# Altium integrated library TI_Logic_Flip-Flop,Latch,Register.IntLib: 2598 symbols (part 63 of 122)
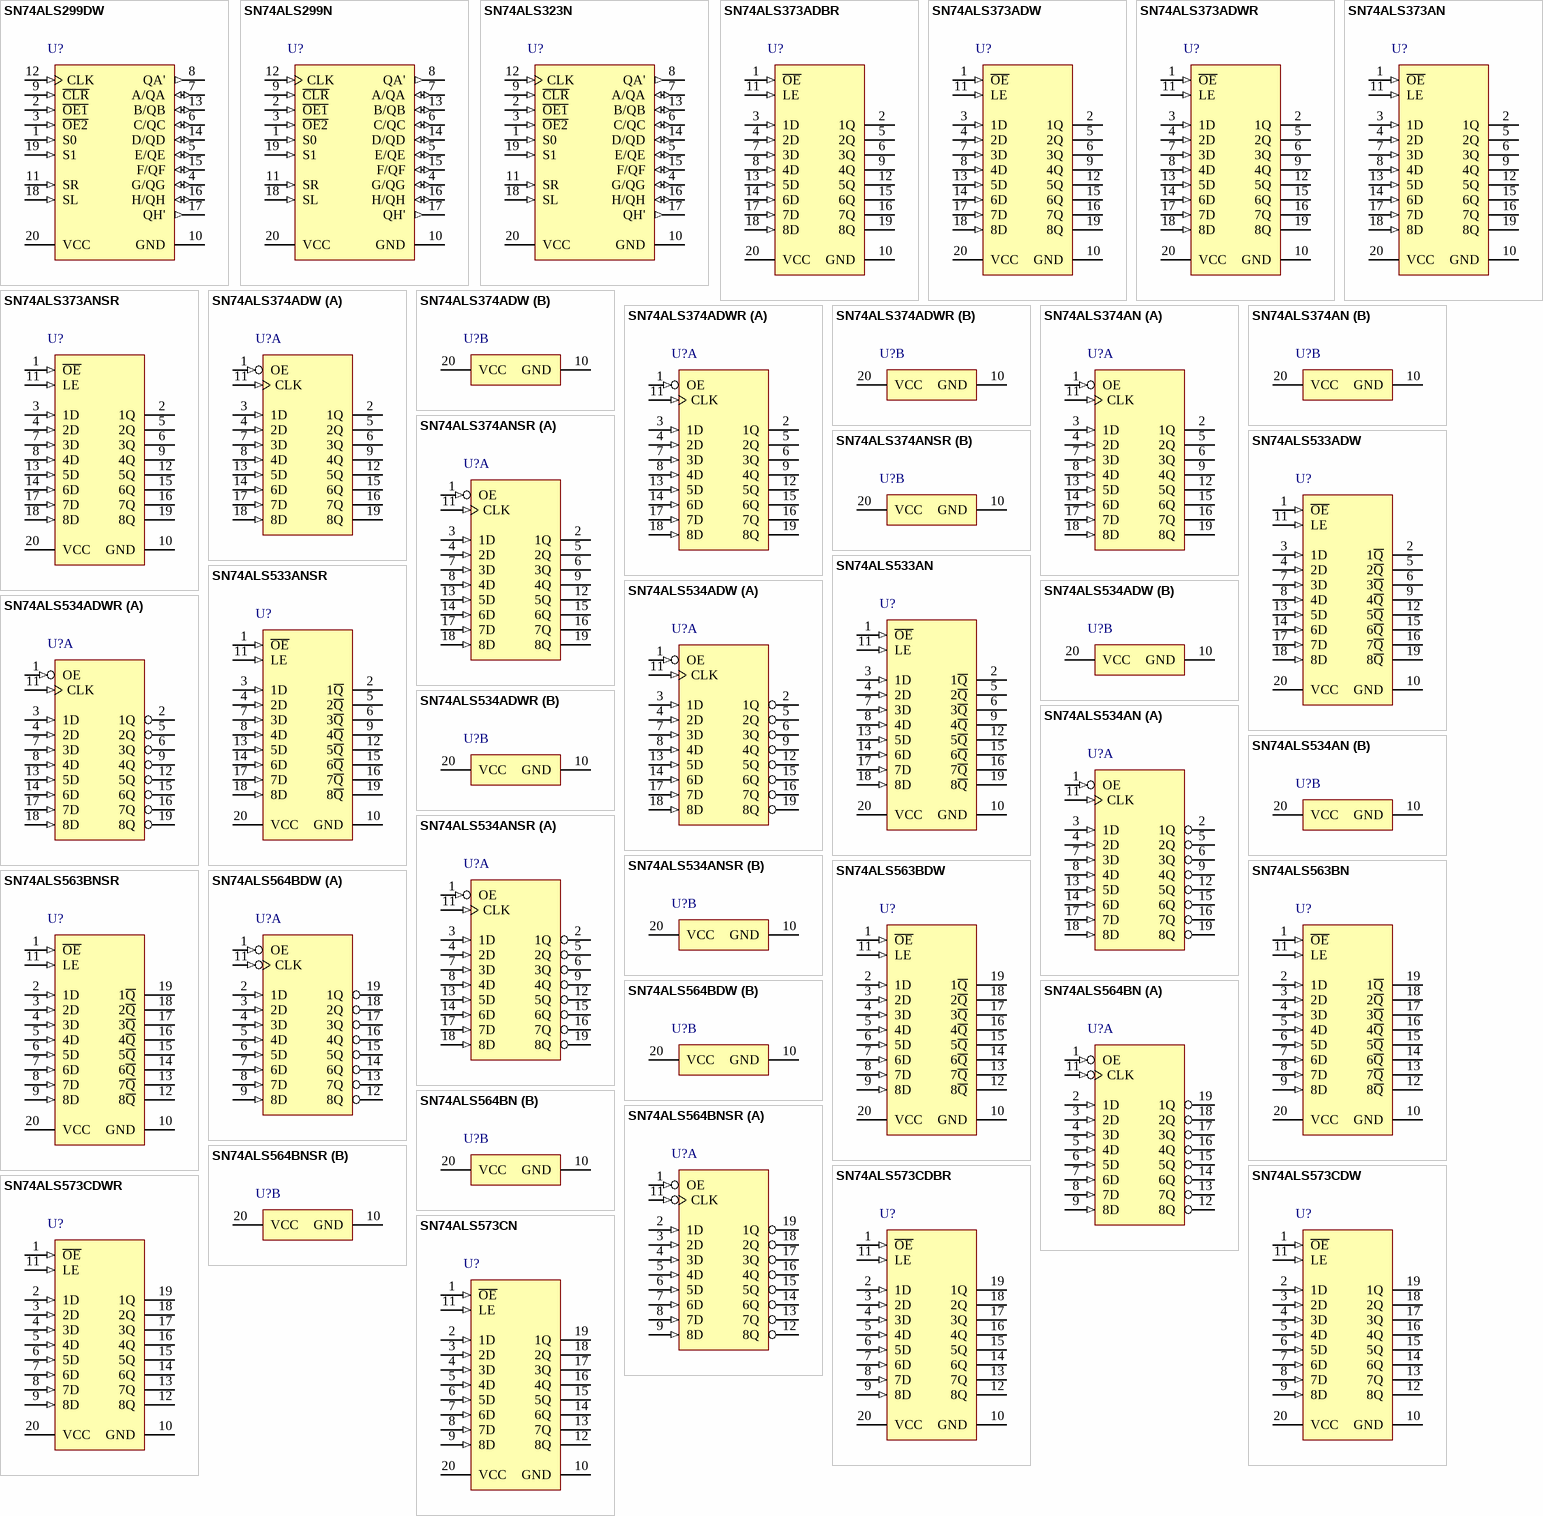
[diagram p201: symbols SN74ALS299DW to SN74ALS573CN]

## SN74ALS373ADBR
designator U?
Octal D-Type Transparent Latches with 3-state Outputs, DB0020A, LARGE T&R; Generic Part Number: SN74ALS373A; Manufacturer: Texas Instruments; PartNumber: SN74ALS373ADBR; VCC(Min)(V): 4.5; VCC(Max)(V): 5.5; Output Type: TTL; ICC @ Nom Voltage(Max)(mA): 27; Bits(#): 8; F @ Nom Voltage(Max)(Mhz): 75; Rating: Catalog; Technology Family: ALS; Voltage(Nom)(V): 5; Schmitt Trigger: No; Output Drive (IOL/IOH)(Max)(mA): 24/--2.6; Output Logic: Non-inverted; 3-State Output: Yes; tpd @ Nom Voltage(Max)(ns): 16; DatasheetVersion: SDAS083C; PackageReference: DB0020A; Supplier 1: Digi-Key; Supplier Part Number 1: 296-5056-2-ND; Supplier 2: Digi-Key; Supplier Part Number 2: 296-5056-1-ND; Supplier 3: Digi-Key; Supplier Part Number 3: 296-5056-6-ND; Supplier 4: Mouser; Supplier Part Number 4: 595-SN74ALS373ADBR; Input Type: TTL; Operating Temperature Range(C): 0 to 70; Code_JEDEC: MO-150; ComponentLink1Description: Manufacturer URL; ComponentLink1URL: http://www.ti.com/; ComponentLink2Description: Datasheet; ComponentLink2URL: http://www.ti.com/lit/ds/symlink/sn74als373a.pdf; ComponentLink3Description: Package Specification; ComponentLink3URL: http://www.ti.com/lit/ml/mpds508/mpds508.pdf
footprint DB0020A_N (SOP, 20-Leads, Body 5.6x7.5mm, Pitch 0.65mm, IPC Medium Density)
footprint DB0020A_M (SOP, 20-Leads, Body 5.6x7.5mm, Pitch 0.65mm, IPC Low Density)
footprint DB0020A_L (SOP, 20-Leads, Body 5.6x7.5mm, Pitch 0.65mm, IPC High Density)
pins: 1 ~{OE} (in) "Output Enable", 2 1Q (hiz) "1Q Output", 3 1D (in) "1D Input", 4 2D (in) "2D Input", 5 2Q (hiz) "2Q Output", 6 3Q (hiz) "3Q Output", 7 3D (in) "3D Input", 8 4D (in) "4D Input", 9 4Q (hiz) "4Q Output", 10 GND (power) "Ground Pin", 11 LE (in) "Latch Enable", 12 5Q (hiz) "5Q Output", 13 5D (in) "5D Input", 14 6D (in) "6D Input", 15 6Q (hiz) "6Q Output", 16 7Q (hiz) "7Q Output", 17 7D (in) "7D Input", 18 8D (in) "8D Input", 19 8Q (hiz) "8Q Output", 20 VCC (power) "Power Pin"

## SN74ALS373ADW
designator U?
Octal D-Type Transparent Latches with 3-state Outputs, DW0020A, TUBE; Generic Part Number: SN74ALS373A; Manufacturer: Texas Instruments; PartNumber: SN74ALS373ADW; VCC(Min)(V): 4.5; VCC(Max)(V): 5.5; Output Type: TTL; ICC @ Nom Voltage(Max)(mA): 27; Bits(#): 8; F @ Nom Voltage(Max)(Mhz): 75; Rating: Catalog; Technology Family: ALS; Voltage(Nom)(V): 5; Schmitt Trigger: No; Output Drive (IOL/IOH)(Max)(mA): 24/--2.6; Output Logic: Non-inverted; 3-State Output: Yes; tpd @ Nom Voltage(Max)(ns): 16; DatasheetVersion: SDAS083C; PackageReference: DW0020A; Supplier 1: Digi-Key; Supplier Part Number 1: 296-5057-5-ND; Supplier 2: Mouser; Supplier Part Number 2: 595-SN74ALS373ADW; Input Type: TTL; Operating Temperature Range(C): 0 to 70; Code_JEDEC: MS-013; ComponentLink1Description: Manufacturer URL; ComponentLink1URL: http://www.ti.com/; ComponentLink2Description: Datasheet; ComponentLink2URL: http://www.ti.com/lit/ds/symlink/sn74als373a.pdf; ComponentLink3Description: Package Specification; ComponentLink3URL: http://www.ti.com/lit/ml/mpds173a/mpds173a.pdf
footprint DW0020A_N (SOIC, 20-Leads, Body 13x7.6mm, Pitch 1.27mm, IPC Medium Density)
footprint DW0020A_M (SOIC, 20-Leads, Body 13x7.6mm, Pitch 1.27mm, IPC Low Density)
footprint DW0020A_L (SOIC, 20-Leads, Body 13x7.6mm, Pitch 1.27mm, IPC High Density)
pins: 1 ~{OE} (in) "Output Enable", 2 1Q (hiz) "1Q Output", 3 1D (in) "1D Input", 4 2D (in) "2D Input", 5 2Q (hiz) "2Q Output", 6 3Q (hiz) "3Q Output", 7 3D (in) "3D Input", 8 4D (in) "4D Input", 9 4Q (hiz) "4Q Output", 10 GND (power) "Ground Pin", 11 LE (in) "Latch Enable", 12 5Q (hiz) "5Q Output", 13 5D (in) "5D Input", 14 6D (in) "6D Input", 15 6Q (hiz) "6Q Output", 16 7Q (hiz) "7Q Output", 17 7D (in) "7D Input", 18 8D (in) "8D Input", 19 8Q (hiz) "8Q Output", 20 VCC (power) "Power Pin"

## SN74ALS373ADWR
designator U?
Octal D-Type Transparent Latches with 3-state Outputs, DW0020A, LARGE T&R; Generic Part Number: SN74ALS373A; Manufacturer: Texas Instruments; PartNumber: SN74ALS373ADWR; VCC(Min)(V): 4.5; VCC(Max)(V): 5.5; Output Type: TTL; ICC @ Nom Voltage(Max)(mA): 27; Bits(#): 8; F @ Nom Voltage(Max)(Mhz): 75; Rating: Catalog; Technology Family: ALS; Voltage(Nom)(V): 5; Schmitt Trigger: No; Output Drive (IOL/IOH)(Max)(mA): 24/--2.6; Output Logic: Non-inverted; 3-State Output: Yes; tpd @ Nom Voltage(Max)(ns): 16; DatasheetVersion: SDAS083C; PackageReference: DW0020A; Supplier 1: Digi-Key; Supplier Part Number 1: 296-14735-2-ND; Supplier 2: Digi-Key; Supplier Part Number 2: 296-14735-1-ND; Supplier 3: Digi-Key; Supplier Part Number 3: 296-14735-6-ND; Supplier 4: Mouser; Supplier Part Number 4: 595-SN74ALS373ADWR; Input Type: TTL; Operating Temperature Range(C): 0 to 70; Code_JEDEC: MS-013; ComponentLink1Description: Manufacturer URL; ComponentLink1URL: http://www.ti.com/; ComponentLink2Description: Datasheet; ComponentLink2URL: http://www.ti.com/lit/ds/symlink/sn74als373a.pdf; ComponentLink3Description: Package Specification; ComponentLink3URL: http://www.ti.com/lit/ml/mpds173a/mpds173a.pdf
footprint DW0020A_N (SOIC, 20-Leads, Body 13x7.6mm, Pitch 1.27mm, IPC Medium Density)
footprint DW0020A_M (SOIC, 20-Leads, Body 13x7.6mm, Pitch 1.27mm, IPC Low Density)
footprint DW0020A_L (SOIC, 20-Leads, Body 13x7.6mm, Pitch 1.27mm, IPC High Density)
pins: 1 ~{OE} (in) "Output Enable", 2 1Q (hiz) "1Q Output", 3 1D (in) "1D Input", 4 2D (in) "2D Input", 5 2Q (hiz) "2Q Output", 6 3Q (hiz) "3Q Output", 7 3D (in) "3D Input", 8 4D (in) "4D Input", 9 4Q (hiz) "4Q Output", 10 GND (power) "Ground Pin", 11 LE (in) "Latch Enable", 12 5Q (hiz) "5Q Output", 13 5D (in) "5D Input", 14 6D (in) "6D Input", 15 6Q (hiz) "6Q Output", 16 7Q (hiz) "7Q Output", 17 7D (in) "7D Input", 18 8D (in) "8D Input", 19 8Q (hiz) "8Q Output", 20 VCC (power) "Power Pin"

## SN74ALS373AN
designator U?
Octal D-Type Transparent Latches with 3-state Outputs, N0020A, TUBE; Generic Part Number: SN74ALS373A; Manufacturer: Texas Instruments; PartNumber: SN74ALS373AN; VCC(Min)(V): 4.5; VCC(Max)(V): 5.5; Output Type: TTL; ICC @ Nom Voltage(Max)(mA): 27; Bits(#): 8; F @ Nom Voltage(Max)(Mhz): 75; Rating: Catalog; Technology Family: ALS; Voltage(Nom)(V): 5; Schmitt Trigger: No; Output Drive (IOL/IOH)(Max)(mA): 24/--2.6; Output Logic: Non-inverted; 3-State Output: Yes; tpd @ Nom Voltage(Max)(ns): 16; DatasheetVersion: SDAS083C; PackageReference: N0020A; Supplier 1: Digi-Key; Supplier Part Number 1: 296-1496-5-ND; Supplier 2: Farnell; Supplier Part Number 2: 1740074; Supplier 3: Newark; Supplier Part Number 3: 08F6043; Supplier 4: Mouser; Supplier Part Number 4: 595-SN74ALS373AN; Input Type: TTL; Operating Temperature Range(C): 0 to 70; Code_JEDEC: MS-001; ComponentLink1Description: Manufacturer URL; ComponentLink1URL: http://www.ti.com/; ComponentLink2Description: Datasheet; ComponentLink2URL: http://www.ti.com/lit/ds/symlink/sn74als373a.pdf; ComponentLink3Description: Package Specification; ComponentLink3URL: http://www.ti.com/lit/ml/mpdi002c/mpdi002c.pdf
footprint N0020A (DIP, 20-Leads, Body 26.9x6.6mm, Pitch 2.54mm)
pins: 1 ~{OE} (in) "Output Enable", 2 1Q (hiz) "1Q Output", 3 1D (in) "1D Input", 4 2D (in) "2D Input", 5 2Q (hiz) "2Q Output", 6 3Q (hiz) "3Q Output", 7 3D (in) "3D Input", 8 4D (in) "4D Input", 9 4Q (hiz) "4Q Output", 10 GND (power) "Ground Pin", 11 LE (in) "Latch Enable", 12 5Q (hiz) "5Q Output", 13 5D (in) "5D Input", 14 6D (in) "6D Input", 15 6Q (hiz) "6Q Output", 16 7Q (hiz) "7Q Output", 17 7D (in) "7D Input", 18 8D (in) "8D Input", 19 8Q (hiz) "8Q Output", 20 VCC (power) "Power Pin"

## SN74ALS373ANSR
designator U?
Octal D-Type Transparent Latches with 3-state Outputs, NS0020A, LARGE T&R; Generic Part Number: SN74ALS373A; Manufacturer: Texas Instruments; PartNumber: SN74ALS373ANSR; VCC(Min)(V): 4.5; VCC(Max)(V): 5.5; Output Type: TTL; ICC @ Nom Voltage(Max)(mA): 27; Bits(#): 8; F @ Nom Voltage(Max)(Mhz): 75; Rating: Catalog; Technology Family: ALS; Voltage(Nom)(V): 5; Schmitt Trigger: No; Output Drive (IOL/IOH)(Max)(mA): 24/--2.6; Output Logic: Non-inverted; 3-State Output: Yes; tpd @ Nom Voltage(Max)(ns): 16; DatasheetVersion: SDAS083C; PackageReference: NS0020A; Supplier 1: Digi-Key; Supplier Part Number 1: SN74ALS373ANSR-ND; Supplier 2: Mouser; Supplier Part Number 2: 595-SN74ALS373ANSR; Input Type: TTL; Operating Temperature Range(C): 0 to 70; ComponentLink1Description: Manufacturer URL; ComponentLink1URL: http://www.ti.com/; ComponentLink2Description: Datasheet; ComponentLink2URL: http://www.ti.com/lit/ds/symlink/sn74als373a.pdf; ComponentLink3Description: Package Specification; ComponentLink3URL: http://www.ti.com/lit/ml/msop002a/msop002a.pdf
footprint NS0020A_N (SOIC,20-Leads,Body 12.9x5.6mm,Pitch 1.27mm,IPC Medium Density)
footprint NS0020A_M (SOIC,20-Leads,Body 12.9x5.6mm,Pitch 1.27mm,IPC Low Density)
footprint NS0020A_L (SOIC,20-Leads,Body 12.9x5.6mm,Pitch 1.27mm,IPC High Density)
pins: 1 ~{OE} (in) "Output Enable", 2 1Q (hiz) "1Q Output", 3 1D (in) "1D Input", 4 2D (in) "2D Input", 5 2Q (hiz) "2Q Output", 6 3Q (hiz) "3Q Output", 7 3D (in) "3D Input", 8 4D (in) "4D Input", 9 4Q (hiz) "4Q Output", 10 GND (power) "Ground Pin", 11 LE (in) "Latch Enable", 12 5Q (hiz) "5Q Output", 13 5D (in) "5D Input", 14 6D (in) "6D Input", 15 6Q (hiz) "6Q Output", 16 7Q (hiz) "7Q Output", 17 7D (in) "7D Input", 18 8D (in) "8D Input", 19 8Q (hiz) "8Q Output", 20 VCC (power) "Power Pin"

## SN74ALS374ADW
designator U?
Octal D-Type Edge Triggered Flip-Flops with 3-State Outputs, DW0020A, TUBE; Generic Part Number: SN74ALS374A; Manufacturer: Texas Instruments; PartNumber: SN74ALS374ADW; VCC(Min)(V): 4.5; VCC(Max)(V): 5.5; Output Type: TTL; ICC @ Nom Voltage(Max)(mA): 31; Bits(#): 8; F @ Nom Voltage(Max)(Mhz): 75; Rating: Catalog; Technology Family: ALS; Voltage(Nom)(V): 5; Schmitt Trigger: No; Output Drive (IOL/IOH)(Max)(mA): 24/-2.6; Output Logic: Non-inverted; 3-State Output: Yes; tpd @ Nom Voltage(Max)(ns): 16; DatasheetVersion: SDAS167C; PackageReference: DW0020A; Supplier 1: Digi-Key; Supplier Part Number 1: 296-1128-5-ND; Supplier 2: Farnell; Supplier Part Number 2: 2499856; Supplier 3: Newark; Supplier Part Number 3: 68Y8015; Supplier 4: Mouser; Supplier Part Number 4: 595-SN74ALS374ADW; Input Type: TTL; Operating Temperature Range(C): 0 to 70; Code_JEDEC: MS-013; ComponentLink1Description: Manufacturer URL; ComponentLink1URL: http://www.ti.com/; ComponentLink2Description: Datasheet; ComponentLink2URL: http://www.ti.com/lit/ds/symlink/sn74als374a.pdf; ComponentLink3Description: Package Specification; ComponentLink3URL: http://www.ti.com/lit/ml/mpds173a/mpds173a.pdf
footprint DW0020A_N (SOIC, 20-Leads, Body 13x7.6mm, Pitch 1.27mm, IPC Medium Density)
footprint DW0020A_M (SOIC, 20-Leads, Body 13x7.6mm, Pitch 1.27mm, IPC Low Density)
footprint DW0020A_L (SOIC, 20-Leads, Body 13x7.6mm, Pitch 1.27mm, IPC High Density)
part A pins: 1 OE (in), 2 1Q (hiz), 3 1D (in), 4 2D (in), 5 2Q (hiz), 6 3Q (hiz), 7 3D (in), 8 4D (in), 9 4Q (hiz), 11 CLK (in), 12 5Q (hiz), 13 5D (in), 14 6D (in), 15 6Q (hiz), 16 7Q (hiz), 17 7D (in), 18 8D (in), 19 8Q (hiz)
part B pins: 10 GND (power), 20 VCC (power)

## SN74ALS374ADWR
designator U?
Octal D-Type Edge Triggered Flip-Flops with 3-State Outputs, DW0020A, LARGE T&R; Generic Part Number: SN74ALS374A; Manufacturer: Texas Instruments; PartNumber: SN74ALS374ADWR; VCC(Min)(V): 4.5; VCC(Max)(V): 5.5; Output Type: TTL; ICC @ Nom Voltage(Max)(mA): 31; Bits(#): 8; F @ Nom Voltage(Max)(Mhz): 75; Rating: Catalog; Technology Family: ALS; Voltage(Nom)(V): 5; Schmitt Trigger: No; Output Drive (IOL/IOH)(Max)(mA): 24/-2.6; Output Logic: Non-inverted; 3-State Output: Yes; tpd @ Nom Voltage(Max)(ns): 16; DatasheetVersion: SDAS167C; PackageReference: DW0020A; Supplier 1: Digi-Key; Supplier Part Number 1: 296-1128-2-ND; Supplier 2: Digi-Key; Supplier Part Number 2: 296-1128-1-ND; Supplier 3: Digi-Key; Supplier Part Number 3: 296-1128-6-ND; Supplier 4: Mouser; Supplier Part Number 4: 595-SN74ALS374ADWR; Input Type: TTL; Operating Temperature Range(C): 0 to 70; Code_JEDEC: MS-013; ComponentLink1Description: Manufacturer URL; ComponentLink1URL: http://www.ti.com/; ComponentLink2Description: Datasheet; ComponentLink2URL: http://www.ti.com/lit/ds/symlink/sn74als374a.pdf; ComponentLink3Description: Package Specification; ComponentLink3URL: http://www.ti.com/lit/ml/mpds173a/mpds173a.pdf
footprint DW0020A_N (SOIC, 20-Leads, Body 13x7.6mm, Pitch 1.27mm, IPC Medium Density)
footprint DW0020A_M (SOIC, 20-Leads, Body 13x7.6mm, Pitch 1.27mm, IPC Low Density)
footprint DW0020A_L (SOIC, 20-Leads, Body 13x7.6mm, Pitch 1.27mm, IPC High Density)
part A pins: 1 OE (in), 2 1Q (hiz), 3 1D (in), 4 2D (in), 5 2Q (hiz), 6 3Q (hiz), 7 3D (in), 8 4D (in), 9 4Q (hiz), 11 CLK (in), 12 5Q (hiz), 13 5D (in), 14 6D (in), 15 6Q (hiz), 16 7Q (hiz), 17 7D (in), 18 8D (in), 19 8Q (hiz)
part B pins: 10 GND (power), 20 VCC (power)

## SN74ALS374AN
designator U?
Octal D-Type Edge Triggered Flip-Flops with 3-State Outputs, N0020A, TUBE; Generic Part Number: SN74ALS374A; Manufacturer: Texas Instruments; PartNumber: SN74ALS374AN; VCC(Min)(V): 4.5; VCC(Max)(V): 5.5; Output Type: TTL; ICC @ Nom Voltage(Max)(mA): 31; Bits(#): 8; F @ Nom Voltage(Max)(Mhz): 75; Rating: Catalog; Technology Family: ALS; Voltage(Nom)(V): 5; Schmitt Trigger: No; Output Drive (IOL/IOH)(Max)(mA): 24/-2.6; Output Logic: Non-inverted; 3-State Output: Yes; tpd @ Nom Voltage(Max)(ns): 16; DatasheetVersion: SDAS167C; PackageReference: N0020A; Supplier 1: Digi-Key; Supplier Part Number 1: 296-1498-5-ND; Supplier 2: Farnell; Supplier Part Number 2: 1105956; Supplier 3: Newark; Supplier Part Number 3: 67K1043; Supplier 4: Mouser; Supplier Part Number 4: 595-SN74ALS374AN; Input Type: TTL; Operating Temperature Range(C): 0 to 70; Code_JEDEC: MS-001; ComponentLink1Description: Manufacturer URL; ComponentLink1URL: http://www.ti.com/; ComponentLink2Description: Datasheet; ComponentLink2URL: http://www.ti.com/lit/ds/symlink/sn74als374a.pdf; ComponentLink3Description: Package Specification; ComponentLink3URL: http://www.ti.com/lit/ml/mpdi002c/mpdi002c.pdf
footprint N0020A (DIP, 20-Leads, Body 26.9x6.6mm, Pitch 2.54mm)
part A pins: 1 OE (in), 2 1Q (hiz), 3 1D (in), 4 2D (in), 5 2Q (hiz), 6 3Q (hiz), 7 3D (in), 8 4D (in), 9 4Q (hiz), 11 CLK (in), 12 5Q (hiz), 13 5D (in), 14 6D (in), 15 6Q (hiz), 16 7Q (hiz), 17 7D (in), 18 8D (in), 19 8Q (hiz)
part B pins: 10 GND (power), 20 VCC (power)

## SN74ALS374ANSR
designator U?
Octal D-Type Edge Triggered Flip-Flops with 3-State Outputs, NS0020A, LARGE T&R; Generic Part Number: SN74ALS374A; Manufacturer: Texas Instruments; PartNumber: SN74ALS374ANSR; VCC(Min)(V): 4.5; VCC(Max)(V): 5.5; Output Type: TTL; ICC @ Nom Voltage(Max)(mA): 31; Bits(#): 8; F @ Nom Voltage(Max)(Mhz): 75; Rating: Catalog; Technology Family: ALS; Voltage(Nom)(V): 5; Schmitt Trigger: No; Output Drive (IOL/IOH)(Max)(mA): 24/-2.6; Output Logic: Non-inverted; 3-State Output: Yes; tpd @ Nom Voltage(Max)(ns): 16; DatasheetVersion: SDAS167C; PackageReference: NS0020A; Supplier 1: Digi-Key; Supplier Part Number 1: 296-38225-2-ND; Supplier 2: Digi-Key; Supplier Part Number 2: 296-38225-1-ND; Supplier 3: Digi-Key; Supplier Part Number 3: 296-38225-6-ND; Supplier 4: Mouser; Supplier Part Number 4: 595-SN74ALS374ANSR; Input Type: TTL; Operating Temperature Range(C): 0 to 70; ComponentLink1Description: Manufacturer URL; ComponentLink1URL: http://www.ti.com/; ComponentLink2Description: Datasheet; ComponentLink2URL: http://www.ti.com/lit/ds/symlink/sn74als374a.pdf; ComponentLink3Description: Package Specification; ComponentLink3URL: http://www.ti.com/lit/ml/msop002a/msop002a.pdf
footprint NS0020A_N (SOIC,20-Leads,Body 12.9x5.6mm,Pitch 1.27mm,IPC Medium Density)
footprint NS0020A_M (SOIC,20-Leads,Body 12.9x5.6mm,Pitch 1.27mm,IPC Low Density)
footprint NS0020A_L (SOIC,20-Leads,Body 12.9x5.6mm,Pitch 1.27mm,IPC High Density)
part A pins: 1 OE (in), 2 1Q (hiz), 3 1D (in), 4 2D (in), 5 2Q (hiz), 6 3Q (hiz), 7 3D (in), 8 4D (in), 9 4Q (hiz), 11 CLK (in), 12 5Q (hiz), 13 5D (in), 14 6D (in), 15 6Q (hiz), 16 7Q (hiz), 17 7D (in), 18 8D (in), 19 8Q (hiz)
part B pins: 10 GND (power), 20 VCC (power)

## SN74ALS533ADW
designator U?
Octal D-Type Transparent Latches With 3-State Outputs, DW0020A, TUBE; Generic Part Number: SN74ALS533A; Manufacturer: Texas Instruments; PartNumber: SN74ALS533ADW; VCC(Min)(V): 4.5; VCC(Max)(V): 5.5; Output Type: TTL; Logic: Inverting; Static Current: 21.5; ICC @ Nom Voltage(Max)(mA): 28; Bits(#): 8; F @ Nom Voltage(Max)(Mhz): 75; Rating: Catalog; Technology Family: ALS; Voltage(Nom)(V): 5; Schmitt Trigger: No; Output Drive (IOL/IOH)(Max)(mA): 24/--2.6; Output Logic: Inverted; 3-State Output: Yes; tpd @ Nom Voltage(Max)(ns): 16; DatasheetVersion: SDAS270; PackageReference: DW0020A; Supplier 1: Digi-Key; Supplier Part Number 1: 296-5063-5-ND; Supplier 2: Mouser; Supplier Part Number 2: 595-SN74ALS533ADW; Input Type: TTL; Operating Temperature Range(C): 0 to 70; Code_JEDEC: MS-013; ComponentLink1Description: Manufacturer URL; ComponentLink1URL: http://www.ti.com/; ComponentLink2Description: Datasheet; ComponentLink2URL: http://www.ti.com/lit/ds/symlink/sn74als533a.pdf; ComponentLink3Description: Package Specification; ComponentLink3URL: http://www.ti.com/lit/ml/mpds173a/mpds173a.pdf
footprint DW0020A_N (SOIC, 20-Leads, Body 13x7.6mm, Pitch 1.27mm, IPC Medium Density)
footprint DW0020A_M (SOIC, 20-Leads, Body 13x7.6mm, Pitch 1.27mm, IPC Low Density)
footprint DW0020A_L (SOIC, 20-Leads, Body 13x7.6mm, Pitch 1.27mm, IPC High Density)
pins: 1 ~{OE} (in), 2 1~{Q} (hiz), 3 1D (in), 4 2D (in), 5 2~{Q} (hiz), 6 3~{Q} (hiz), 7 3D (in), 8 4D (in), 9 4~{Q} (hiz), 10 GND (power), 11 LE (in), 12 5~{Q} (hiz), 13 5D (in), 14 6D (in), 15 6~{Q} (hiz), 16 7~{Q} (hiz), 17 7D (in), 18 8D (in), 19 8~{Q} (hiz), 20 VCC (power)

## SN74ALS533AN
designator U?
Octal D-Type Transparent Latches With 3-State Outputs, N0020A, TUBE; Generic Part Number: SN74ALS533A; Manufacturer: Texas Instruments; PartNumber: SN74ALS533AN; VCC(Min)(V): 4.5; VCC(Max)(V): 5.5; Output Type: TTL; Logic: Inverting; Static Current: 21.5; ICC @ Nom Voltage(Max)(mA): 28; Bits(#): 8; F @ Nom Voltage(Max)(Mhz): 75; Rating: Catalog; Technology Family: ALS; Voltage(Nom)(V): 5; Schmitt Trigger: No; Output Drive (IOL/IOH)(Max)(mA): 24/--2.6; Output Logic: Inverted; 3-State Output: Yes; tpd @ Nom Voltage(Max)(ns): 16; DatasheetVersion: SDAS270; PackageReference: N0020A; Supplier 1: Digi-Key; Supplier Part Number 1: SN74ALS533AN-ND; Supplier 2: Farnell; Supplier Part Number 2: 1750099; Supplier 3: Mouser; Supplier Part Number 3: 595-SN74ALS533AN; Input Type: TTL; Operating Temperature Range(C): 0 to 70; Code_JEDEC: MS-001; ComponentLink1Description: Manufacturer URL; ComponentLink1URL: http://www.ti.com/; ComponentLink2Description: Datasheet; ComponentLink2URL: http://www.ti.com/lit/ds/symlink/sn74als533a.pdf; ComponentLink3Description: Package Specification; ComponentLink3URL: http://www.ti.com/lit/ml/mpdi002c/mpdi002c.pdf
footprint N0020A (DIP, 20-Leads, Body 26.9x6.6mm, Pitch 2.54mm)
pins: 1 ~{OE} (in), 2 1~{Q} (hiz), 3 1D (in), 4 2D (in), 5 2~{Q} (hiz), 6 3~{Q} (hiz), 7 3D (in), 8 4D (in), 9 4~{Q} (hiz), 10 GND (power), 11 LE (in), 12 5~{Q} (hiz), 13 5D (in), 14 6D (in), 15 6~{Q} (hiz), 16 7~{Q} (hiz), 17 7D (in), 18 8D (in), 19 8~{Q} (hiz), 20 VCC (power)

## SN74ALS533ANSR
designator U?
Octal D-Type Transparent Latches With 3-State Outputs, NS0020A, LARGE T&R; Generic Part Number: SN74ALS533A; Manufacturer: Texas Instruments; PartNumber: SN74ALS533ANSR; VCC(Min)(V): 4.5; VCC(Max)(V): 5.5; Output Type: TTL; Logic: Inverting; Static Current: 21.5; ICC @ Nom Voltage(Max)(mA): 28; Bits(#): 8; F @ Nom Voltage(Max)(Mhz): 75; Rating: Catalog; Technology Family: ALS; Voltage(Nom)(V): 5; Schmitt Trigger: No; Output Drive (IOL/IOH)(Max)(mA): 24/--2.6; Output Logic: Inverted; 3-State Output: Yes; tpd @ Nom Voltage(Max)(ns): 16; DatasheetVersion: SDAS270; PackageReference: NS0020A; Supplier 1: Digi-Key; Supplier Part Number 1: 296-28868-2-ND; Supplier 2: Digi-Key; Supplier Part Number 2: 296-28868-1-ND; Supplier 3: Digi-Key; Supplier Part Number 3: 296-28868-6-ND; Supplier 4: Mouser; Supplier Part Number 4: 595-SN74ALS533ANSR; Input Type: TTL; Operating Temperature Range(C): 0 to 70; ComponentLink1Description: Manufacturer URL; ComponentLink1URL: http://www.ti.com/; ComponentLink2Description: Datasheet; ComponentLink2URL: http://www.ti.com/lit/ds/symlink/sn74als533a.pdf; ComponentLink3Description: Package Specification; ComponentLink3URL: http://www.ti.com/lit/ml/msop002a/msop002a.pdf
footprint NS0020A_N (SOIC,20-Leads,Body 12.9x5.6mm,Pitch 1.27mm,IPC Medium Density)
footprint NS0020A_M (SOIC,20-Leads,Body 12.9x5.6mm,Pitch 1.27mm,IPC Low Density)
footprint NS0020A_L (SOIC,20-Leads,Body 12.9x5.6mm,Pitch 1.27mm,IPC High Density)
pins: 1 ~{OE} (in), 2 1~{Q} (hiz), 3 1D (in), 4 2D (in), 5 2~{Q} (hiz), 6 3~{Q} (hiz), 7 3D (in), 8 4D (in), 9 4~{Q} (hiz), 10 GND (power), 11 LE (in), 12 5~{Q} (hiz), 13 5D (in), 14 6D (in), 15 6~{Q} (hiz), 16 7~{Q} (hiz), 17 7D (in), 18 8D (in), 19 8~{Q} (hiz), 20 VCC (power)

## SN74ALS534ADW
designator U?
Octal D-Type Edge-Triggered Flip-Flops With 3-State Outputs, DW0020A, TUBE; Generic Part Number: SN74ALS534A; Manufacturer: Texas Instruments; PartNumber: SN74ALS534ADW; VCC(Min)(V): 4.5; VCC(Max)(V): 5.5; Output Type: TTL; ICC @ Nom Voltage(Max)(mA): 31; Bits(#): 8; F @ Nom Voltage(Max)(Mhz): 75; Rating: Catalog; Technology Family: ALS; Voltage(Nom)(V): 5; Schmitt Trigger: No; Output Drive (IOL/IOH)(Max)(mA): 24/-2.6; Output Logic: Inverted; 3-State Output: Yes; tpd @ Nom Voltage(Max)(ns): 16; DatasheetVersion: SDAS168B; PackageReference: DW0020A; Supplier 1: Digi-Key; Supplier Part Number 1: SN74ALS534ADW-ND; Supplier 2: Mouser; Supplier Part Number 2: 595-SN74ALS534ADW; Input Type: TTL; Operating Temperature Range(C): 0 to 70; Code_JEDEC: MS-013; ComponentLink1Description: Manufacturer URL; ComponentLink1URL: http://www.ti.com/; ComponentLink2Description: Datasheet; ComponentLink2URL: http://www.ti.com/lit/ds/symlink/sn74als534a.pdf; ComponentLink3Description: Package Specification; ComponentLink3URL: http://www.ti.com/lit/ml/mpds173a/mpds173a.pdf
footprint DW0020A_N (SOIC, 20-Leads, Body 13x7.6mm, Pitch 1.27mm, IPC Medium Density)
footprint DW0020A_M (SOIC, 20-Leads, Body 13x7.6mm, Pitch 1.27mm, IPC Low Density)
footprint DW0020A_L (SOIC, 20-Leads, Body 13x7.6mm, Pitch 1.27mm, IPC High Density)
part A pins: 1 OE (in), 2 1Q (hiz), 3 1D (in), 4 2D (in), 5 2Q (hiz), 6 3Q (hiz), 7 3D (in), 8 4D (in), 9 4Q (hiz), 11 CLK (in), 12 5Q (hiz), 13 5D (in), 14 6D (in), 15 6Q (hiz), 16 7Q (hiz), 17 7D (in), 18 8D (in), 19 8Q (hiz)
part B pins: 10 GND (power), 20 VCC (power)

## SN74ALS534ADWR
designator U?
Octal D-Type Edge-Triggered Flip-Flops With 3-State Outputs, DW0020A, LARGE T&R; Generic Part Number: SN74ALS534A; Manufacturer: Texas Instruments; PartNumber: SN74ALS534ADWR; VCC(Min)(V): 4.5; VCC(Max)(V): 5.5; Output Type: TTL; ICC @ Nom Voltage(Max)(mA): 31; Bits(#): 8; F @ Nom Voltage(Max)(Mhz): 75; Rating: Catalog; Technology Family: ALS; Voltage(Nom)(V): 5; Schmitt Trigger: No; Output Drive (IOL/IOH)(Max)(mA): 24/-2.6; Output Logic: Inverted; 3-State Output: Yes; tpd @ Nom Voltage(Max)(ns): 16; DatasheetVersion: SDAS168B; PackageReference: DW0020A; Supplier 1: Digi-Key; Supplier Part Number 1: 296-14740-2-ND; Supplier 2: Digi-Key; Supplier Part Number 2: 296-14740-1-ND; Supplier 3: Digi-Key; Supplier Part Number 3: 296-14740-6-ND; Supplier 4: Mouser; Supplier Part Number 4: 595-SN74ALS534ADWR; Input Type: TTL; Operating Temperature Range(C): 0 to 70; Code_JEDEC: MS-013; ComponentLink1Description: Manufacturer URL; ComponentLink1URL: http://www.ti.com/; ComponentLink2Description: Datasheet; ComponentLink2URL: http://www.ti.com/lit/ds/symlink/sn74als534a.pdf; ComponentLink3Description: Package Specification; ComponentLink3URL: http://www.ti.com/lit/ml/mpds173a/mpds173a.pdf
footprint DW0020A_N (SOIC, 20-Leads, Body 13x7.6mm, Pitch 1.27mm, IPC Medium Density)
footprint DW0020A_M (SOIC, 20-Leads, Body 13x7.6mm, Pitch 1.27mm, IPC Low Density)
footprint DW0020A_L (SOIC, 20-Leads, Body 13x7.6mm, Pitch 1.27mm, IPC High Density)
part A pins: 1 OE (in), 2 1Q (hiz), 3 1D (in), 4 2D (in), 5 2Q (hiz), 6 3Q (hiz), 7 3D (in), 8 4D (in), 9 4Q (hiz), 11 CLK (in), 12 5Q (hiz), 13 5D (in), 14 6D (in), 15 6Q (hiz), 16 7Q (hiz), 17 7D (in), 18 8D (in), 19 8Q (hiz)
part B pins: 10 GND (power), 20 VCC (power)

## SN74ALS534AN
designator U?
Octal D-Type Edge-Triggered Flip-Flops With 3-State Outputs, N0020A, TUBE; Generic Part Number: SN74ALS534A; Manufacturer: Texas Instruments; PartNumber: SN74ALS534AN; VCC(Min)(V): 4.5; VCC(Max)(V): 5.5; Output Type: TTL; ICC @ Nom Voltage(Max)(mA): 31; Bits(#): 8; F @ Nom Voltage(Max)(Mhz): 75; Rating: Catalog; Technology Family: ALS; Voltage(Nom)(V): 5; Schmitt Trigger: No; Output Drive (IOL/IOH)(Max)(mA): 24/-2.6; Output Logic: Inverted; 3-State Output: Yes; tpd @ Nom Voltage(Max)(ns): 16; DatasheetVersion: SDAS168B; PackageReference: N0020A; Supplier 1: Digi-Key; Supplier Part Number 1: 296-5064-5-ND; Supplier 2: Farnell; Supplier Part Number 2: 1749816; Supplier 3: Newark; Supplier Part Number 3: 67K1044; Supplier 4: Mouser; Supplier Part Number 4: 595-SN74ALS534AN; Input Type: TTL; Operating Temperature Range(C): 0 to 70; Code_JEDEC: MS-001; ComponentLink1Description: Manufacturer URL; ComponentLink1URL: http://www.ti.com/; ComponentLink2Description: Datasheet; ComponentLink2URL: http://www.ti.com/lit/ds/symlink/sn74als534a.pdf; ComponentLink3Description: Package Specification; ComponentLink3URL: http://www.ti.com/lit/ml/mpdi002c/mpdi002c.pdf
footprint N0020A (DIP, 20-Leads, Body 26.9x6.6mm, Pitch 2.54mm)
part A pins: 1 OE (in), 2 1Q (hiz), 3 1D (in), 4 2D (in), 5 2Q (hiz), 6 3Q (hiz), 7 3D (in), 8 4D (in), 9 4Q (hiz), 11 CLK (in), 12 5Q (hiz), 13 5D (in), 14 6D (in), 15 6Q (hiz), 16 7Q (hiz), 17 7D (in), 18 8D (in), 19 8Q (hiz)
part B pins: 10 GND (power), 20 VCC (power)

## SN74ALS534ANSR
designator U?
Octal D-Type Edge-Triggered Flip-Flops With 3-State Outputs, NS0020A, LARGE T&R; Generic Part Number: SN74ALS534A; Manufacturer: Texas Instruments; PartNumber: SN74ALS534ANSR; VCC(Min)(V): 4.5; VCC(Max)(V): 5.5; Output Type: TTL; ICC @ Nom Voltage(Max)(mA): 31; Bits(#): 8; F @ Nom Voltage(Max)(Mhz): 75; Rating: Catalog; Technology Family: ALS; Voltage(Nom)(V): 5; Schmitt Trigger: No; Output Drive (IOL/IOH)(Max)(mA): 24/-2.6; Output Logic: Inverted; 3-State Output: Yes; tpd @ Nom Voltage(Max)(ns): 16; DatasheetVersion: SDAS168B; PackageReference: NS0020A; Supplier 1: Digi-Key; Supplier Part Number 1: 296-29124-2-ND; Supplier 2: Digi-Key; Supplier Part Number 2: 296-29124-1-ND; Supplier 3: Digi-Key; Supplier Part Number 3: 296-29124-6-ND; Supplier 4: Mouser; Supplier Part Number 4: 595-SN74ALS534ANSR; Input Type: TTL; Operating Temperature Range(C): 0 to 70; ComponentLink1Description: Manufacturer URL; ComponentLink1URL: http://www.ti.com/; ComponentLink2Description: Datasheet; ComponentLink2URL: http://www.ti.com/lit/ds/symlink/sn74als534a.pdf; ComponentLink3Description: Package Specification; ComponentLink3URL: http://www.ti.com/lit/ml/msop002a/msop002a.pdf
footprint NS0020A_N (SOIC,20-Leads,Body 12.9x5.6mm,Pitch 1.27mm,IPC Medium Density)
footprint NS0020A_M (SOIC,20-Leads,Body 12.9x5.6mm,Pitch 1.27mm,IPC Low Density)
footprint NS0020A_L (SOIC,20-Leads,Body 12.9x5.6mm,Pitch 1.27mm,IPC High Density)
part A pins: 1 OE (in), 2 1Q (hiz), 3 1D (in), 4 2D (in), 5 2Q (hiz), 6 3Q (hiz), 7 3D (in), 8 4D (in), 9 4Q (hiz), 11 CLK (in), 12 5Q (hiz), 13 5D (in), 14 6D (in), 15 6Q (hiz), 16 7Q (hiz), 17 7D (in), 18 8D (in), 19 8Q (hiz)
part B pins: 10 GND (power), 20 VCC (power)

## SN74ALS563BDW
designator U?
Octal D-Type Transparent Latches With 3-State Outputs, DW0020A, TUBE; Generic Part Number: SN74ALS563B; Manufacturer: Texas Instruments; PartNumber: SN74ALS563BDW; VCC(Min)(V): 4.5; VCC(Max)(V): 5.5; Output Type: TTL; Logic: Inverting; Static Current: 21.5; ICC @ Nom Voltage(Max)(mA): 29; Bits(#): 8; F @ Nom Voltage(Max)(Mhz): 75; Rating: Catalog; Technology Family: ALS; Voltage(Nom)(V): 5; Schmitt Trigger: No; Output Drive (IOL/IOH)(Max)(mA): 24/--2.6; Output Logic: Inverted; 3-State Output: Yes; tpd @ Nom Voltage(Max)(ns): 18; DatasheetVersion: SDAS163B; PackageReference: DW0020A; Supplier 1: Digi-Key; Supplier Part Number 1: SN74ALS563BDW-ND; Supplier 2: Farnell; Supplier Part Number 2: 1740936; Supplier 3: Mouser; Supplier Part Number 3: 595-SN74ALS563BDW; Input Type: TTL; Operating Temperature Range(C): 0 to 70; Code_JEDEC: MS-013; ComponentLink1Description: Manufacturer URL; ComponentLink1URL: http://www.ti.com/; ComponentLink2Description: Datasheet; ComponentLink2URL: http://www.ti.com/lit/ds/symlink/sn74als563b.pdf; ComponentLink3Description: Package Specification; ComponentLink3URL: http://www.ti.com/lit/ml/mpds173a/mpds173a.pdf
footprint DW0020A_N (SOIC, 20-Leads, Body 13x7.6mm, Pitch 1.27mm, IPC Medium Density)
footprint DW0020A_M (SOIC, 20-Leads, Body 13x7.6mm, Pitch 1.27mm, IPC Low Density)
footprint DW0020A_L (SOIC, 20-Leads, Body 13x7.6mm, Pitch 1.27mm, IPC High Density)
pins: 1 ~{OE} (in), 2 1D (in), 3 2D (in), 4 3D (in), 5 4D (in), 6 5D (in), 7 6D (in), 8 7D (in), 9 8D (in), 10 GND (power), 11 LE (in), 12 8~{Q} (hiz), 13 7~{Q} (hiz), 14 6~{Q} (hiz), 15 5~{Q} (hiz), 16 4~{Q} (hiz), 17 3~{Q} (hiz), 18 2~{Q} (hiz), 19 1~{Q} (hiz), 20 VCC (power)

## SN74ALS563BN
designator U?
Octal D-Type Transparent Latches With 3-State Outputs, N0020A, TUBE; Generic Part Number: SN74ALS563B; Manufacturer: Texas Instruments; PartNumber: SN74ALS563BN; VCC(Min)(V): 4.5; VCC(Max)(V): 5.5; Output Type: TTL; Logic: Inverting; Static Current: 21.5; ICC @ Nom Voltage(Max)(mA): 29; Bits(#): 8; F @ Nom Voltage(Max)(Mhz): 75; Rating: Catalog; Technology Family: ALS; Voltage(Nom)(V): 5; Schmitt Trigger: No; Output Drive (IOL/IOH)(Max)(mA): 24/--2.6; Output Logic: Inverted; 3-State Output: Yes; tpd @ Nom Voltage(Max)(ns): 18; DatasheetVersion: SDAS163B; PackageReference: N0020A; Supplier 1: Digi-Key; Supplier Part Number 1: 296-33748-5-ND; Supplier 2: Farnell; Supplier Part Number 2: 1750101; Supplier 3: Mouser; Supplier Part Number 3: 595-SN74ALS563BN; Input Type: TTL; Operating Temperature Range(C): 0 to 70; Code_JEDEC: MS-001; ComponentLink1Description: Manufacturer URL; ComponentLink1URL: http://www.ti.com/; ComponentLink2Description: Datasheet; ComponentLink2URL: http://www.ti.com/lit/ds/symlink/sn74als563b.pdf; ComponentLink3Description: Package Specification; ComponentLink3URL: http://www.ti.com/lit/ml/mpdi002c/mpdi002c.pdf
footprint N0020A (DIP, 20-Leads, Body 26.9x6.6mm, Pitch 2.54mm)
pins: 1 ~{OE} (in), 2 1D (in), 3 2D (in), 4 3D (in), 5 4D (in), 6 5D (in), 7 6D (in), 8 7D (in), 9 8D (in), 10 GND (power), 11 LE (in), 12 8~{Q} (hiz), 13 7~{Q} (hiz), 14 6~{Q} (hiz), 15 5~{Q} (hiz), 16 4~{Q} (hiz), 17 3~{Q} (hiz), 18 2~{Q} (hiz), 19 1~{Q} (hiz), 20 VCC (power)

## SN74ALS563BNSR
designator U?
Octal D-Type Transparent Latches With 3-State Outputs, NS0020A, LARGE T&R; Generic Part Number: SN74ALS563B; Manufacturer: Texas Instruments; PartNumber: SN74ALS563BNSR; VCC(Min)(V): 4.5; VCC(Max)(V): 5.5; Output Type: TTL; Logic: Inverting; Static Current: 21.5; ICC @ Nom Voltage(Max)(mA): 29; Bits(#): 8; F @ Nom Voltage(Max)(Mhz): 75; Rating: Catalog; Technology Family: ALS; Voltage(Nom)(V): 5; Schmitt Trigger: No; Output Drive (IOL/IOH)(Max)(mA): 24/--2.6; Output Logic: Inverted; 3-State Output: Yes; tpd @ Nom Voltage(Max)(ns): 18; DatasheetVersion: SDAS163B; PackageReference: NS0020A; Supplier 1: Digi-Key; Supplier Part Number 1: SN74ALS563BNSR-ND; Supplier 2: Mouser; Supplier Part Number 2: 595-SN74ALS563BNSR; Input Type: TTL; Operating Temperature Range(C): 0 to 70; ComponentLink1Description: Manufacturer URL; ComponentLink1URL: http://www.ti.com/; ComponentLink2Description: Datasheet; ComponentLink2URL: http://www.ti.com/lit/ds/symlink/sn74als563b.pdf; ComponentLink3Description: Package Specification; ComponentLink3URL: http://www.ti.com/lit/ml/msop002a/msop002a.pdf
footprint NS0020A_N (SOIC,20-Leads,Body 12.9x5.6mm,Pitch 1.27mm,IPC Medium Density)
footprint NS0020A_M (SOIC,20-Leads,Body 12.9x5.6mm,Pitch 1.27mm,IPC Low Density)
footprint NS0020A_L (SOIC,20-Leads,Body 12.9x5.6mm,Pitch 1.27mm,IPC High Density)
pins: 1 ~{OE} (in), 2 1D (in), 3 2D (in), 4 3D (in), 5 4D (in), 6 5D (in), 7 6D (in), 8 7D (in), 9 8D (in), 10 GND (power), 11 LE (in), 12 8~{Q} (hiz), 13 7~{Q} (hiz), 14 6~{Q} (hiz), 15 5~{Q} (hiz), 16 4~{Q} (hiz), 17 3~{Q} (hiz), 18 2~{Q} (hiz), 19 1~{Q} (hiz), 20 VCC (power)

## SN74ALS564BDW
designator U?
Octal D-Type Edge-Triggered Flip-Flops With 3-State Outputs, DW0020A, TUBE; Generic Part Number: SN74ALS564B; Manufacturer: Texas Instruments; PartNumber: SN74ALS564BDW; VCC(Min)(V): 4.5; VCC(Max)(V): 5.5; Output Type: TTL; ICC @ Nom Voltage(Max)(mA): 30; Bits(#): 8; F @ Nom Voltage(Max)(Mhz): 75; Rating: Catalog; Technology Family: ALS; Voltage(Nom)(V): 5; Schmitt Trigger: No; Output Drive (IOL/IOH)(Max)(mA): 24/-2.6; Output Logic: Inverted; 3-State Output: Yes; tpd @ Nom Voltage(Max)(ns): 14; DatasheetVersion: SDAS164B; PackageReference: DW0020A; Supplier 1: Digi-Key; Supplier Part Number 1: 296-5066-5-ND; Supplier 2: Mouser; Supplier Part Number 2: 595-SN74ALS564BDW; Input Type: TTL; Operating Temperature Range(C): 0 to 70; Code_JEDEC: MS-013; ComponentLink1Description: Manufacturer URL; ComponentLink1URL: http://www.ti.com/; ComponentLink2Description: Datasheet; ComponentLink2URL: http://www.ti.com/lit/ds/symlink/sn74als564b.pdf; ComponentLink3Description: Package Specification; ComponentLink3URL: http://www.ti.com/lit/ml/mpds173a/mpds173a.pdf
footprint DW0020A_N (SOIC, 20-Leads, Body 13x7.6mm, Pitch 1.27mm, IPC Medium Density)
footprint DW0020A_M (SOIC, 20-Leads, Body 13x7.6mm, Pitch 1.27mm, IPC Low Density)
footprint DW0020A_L (SOIC, 20-Leads, Body 13x7.6mm, Pitch 1.27mm, IPC High Density)
part A pins: 1 OE (in), 2 1D (in), 3 2D (in), 4 3D (in), 5 4D (in), 6 5D (in), 7 6D (in), 8 7D (in), 9 8D (in), 11 CLK (in), 12 8Q (hiz), 13 7Q (hiz), 14 6Q (hiz), 15 5Q (hiz), 16 4Q (hiz), 17 3Q (hiz), 18 2Q (hiz), 19 1Q (hiz)
part B pins: 10 GND (power), 20 VCC (power)

## SN74ALS564BN
designator U?
Octal D-Type Edge-Triggered Flip-Flops With 3-State Outputs, N0020A, TUBE; Generic Part Number: SN74ALS564B; Manufacturer: Texas Instruments; PartNumber: SN74ALS564BN; VCC(Min)(V): 4.5; VCC(Max)(V): 5.5; Output Type: TTL; ICC @ Nom Voltage(Max)(mA): 30; Bits(#): 8; F @ Nom Voltage(Max)(Mhz): 75; Rating: Catalog; Technology Family: ALS; Voltage(Nom)(V): 5; Schmitt Trigger: No; Output Drive (IOL/IOH)(Max)(mA): 24/-2.6; Output Logic: Inverted; 3-State Output: Yes; tpd @ Nom Voltage(Max)(ns): 14; DatasheetVersion: SDAS164B; PackageReference: N0020A; Supplier 1: Digi-Key; Supplier Part Number 1: 296-33749-5-ND; Supplier 2: Farnell; Supplier Part Number 2: 1739874; Supplier 3: Mouser; Supplier Part Number 3: 595-SN74ALS564BN; Input Type: TTL; Operating Temperature Range(C): 0 to 70; Code_JEDEC: MS-001; ComponentLink1Description: Manufacturer URL; ComponentLink1URL: http://www.ti.com/; ComponentLink2Description: Datasheet; ComponentLink2URL: http://www.ti.com/lit/ds/symlink/sn74als564b.pdf; ComponentLink3Description: Package Specification; ComponentLink3URL: http://www.ti.com/lit/ml/mpdi002c/mpdi002c.pdf
footprint N0020A (DIP, 20-Leads, Body 26.9x6.6mm, Pitch 2.54mm)
part A pins: 1 OE (in), 2 1D (in), 3 2D (in), 4 3D (in), 5 4D (in), 6 5D (in), 7 6D (in), 8 7D (in), 9 8D (in), 11 CLK (in), 12 8Q (hiz), 13 7Q (hiz), 14 6Q (hiz), 15 5Q (hiz), 16 4Q (hiz), 17 3Q (hiz), 18 2Q (hiz), 19 1Q (hiz)
part B pins: 10 GND (power), 20 VCC (power)

## SN74ALS564BNSR
designator U?
Octal D-Type Edge-Triggered Flip-Flops With 3-State Outputs, NS0020A, LARGE T&R; Generic Part Number: SN74ALS564B; Manufacturer: Texas Instruments; PartNumber: SN74ALS564BNSR; VCC(Min)(V): 4.5; VCC(Max)(V): 5.5; Output Type: TTL; ICC @ Nom Voltage(Max)(mA): 30; Bits(#): 8; F @ Nom Voltage(Max)(Mhz): 75; Rating: Catalog; Technology Family: ALS; Voltage(Nom)(V): 5; Schmitt Trigger: No; Output Drive (IOL/IOH)(Max)(mA): 24/-2.6; Output Logic: Inverted; 3-State Output: Yes; tpd @ Nom Voltage(Max)(ns): 14; DatasheetVersion: SDAS164B; PackageReference: NS0020A; Supplier 1: Digi-Key; Supplier Part Number 1: 296-29126-2-ND; Supplier 2: Digi-Key; Supplier Part Number 2: 296-29126-1-ND; Supplier 3: Digi-Key; Supplier Part Number 3: 296-29126-6-ND; Supplier 4: Mouser; Supplier Part Number 4: 595-SN74ALS564BNSR; Input Type: TTL; Operating Temperature Range(C): 0 to 70; ComponentLink1Description: Manufacturer URL; ComponentLink1URL: http://www.ti.com/; ComponentLink2Description: Datasheet; ComponentLink2URL: http://www.ti.com/lit/ds/symlink/sn74als564b.pdf; ComponentLink3Description: Package Specification; ComponentLink3URL: http://www.ti.com/lit/ml/msop002a/msop002a.pdf
footprint NS0020A_N (SOIC,20-Leads,Body 12.9x5.6mm,Pitch 1.27mm,IPC Medium Density)
footprint NS0020A_M (SOIC,20-Leads,Body 12.9x5.6mm,Pitch 1.27mm,IPC Low Density)
footprint NS0020A_L (SOIC,20-Leads,Body 12.9x5.6mm,Pitch 1.27mm,IPC High Density)
part A pins: 1 OE (in), 2 1D (in), 3 2D (in), 4 3D (in), 5 4D (in), 6 5D (in), 7 6D (in), 8 7D (in), 9 8D (in), 11 CLK (in), 12 8Q (hiz), 13 7Q (hiz), 14 6Q (hiz), 15 5Q (hiz), 16 4Q (hiz), 17 3Q (hiz), 18 2Q (hiz), 19 1Q (hiz)
part B pins: 10 GND (power), 20 VCC (power)

## SN74ALS573CDBR
designator U?
Octal D-Type Transparent Latches With 3-State Outputs, DB0020A, LARGE T&R; Generic Part Number: SN74ALS573C; Manufacturer: Texas Instruments; PartNumber: SN74ALS573CDBR; VCC(Min)(V): 4.5; VCC(Max)(V): 5.5; Output Type: TTL; Logic: True; Static Current: 20.5; ICC @ Nom Voltage(Max)(mA): 27; Bits(#): 8; F @ Nom Voltage(Max)(Mhz): 75; Rating: Catalog; Technology Family: ALS; Voltage(Nom)(V): 5; Schmitt Trigger: No; Output Drive (IOL/IOH)(Max)(mA): 24/--2.6; Output Logic: Non-inverted; 3-State Output: Yes; tpd @ Nom Voltage(Max)(ns): 14; DatasheetVersion: SDAS048D; PackageReference: DB0020A; Supplier 1: Digi-Key; Supplier Part Number 1: 296-29172-2-ND; Supplier 2: Digi-Key; Supplier Part Number 2: 296-29172-1-ND; Supplier 3: Digi-Key; Supplier Part Number 3: 296-29172-6-ND; Supplier 4: Mouser; Supplier Part Number 4: 595-SN74ALS573CDBR; Input Type: TTL; Operating Temperature Range(C): 0 to 70; Code_JEDEC: MO-150; ComponentLink1Description: Manufacturer URL; ComponentLink1URL: http://www.ti.com/; ComponentLink2Description: Datasheet; ComponentLink2URL: http://www.ti.com/lit/ds/symlink/sn74als573c.pdf; ComponentLink3Description: Package Specification; ComponentLink3URL: http://www.ti.com/lit/ml/mpds508/mpds508.pdf
footprint DB0020A_N (SOP, 20-Leads, Body 5.6x7.5mm, Pitch 0.65mm, IPC Medium Density)
footprint DB0020A_M (SOP, 20-Leads, Body 5.6x7.5mm, Pitch 0.65mm, IPC Low Density)
footprint DB0020A_L (SOP, 20-Leads, Body 5.6x7.5mm, Pitch 0.65mm, IPC High Density)
pins: 1 ~{OE} (in), 2 1D (in), 3 2D (in), 4 3D (in), 5 4D (in), 6 5D (in), 7 6D (in), 8 7D (in), 9 8D (in), 10 GND (power), 11 LE (in), 12 8Q (hiz), 13 7Q (hiz), 14 6Q (hiz), 15 5Q (hiz), 16 4Q (hiz), 17 3Q (hiz), 18 2Q (hiz), 19 1Q (hiz), 20 VCC (power)

## SN74ALS573CDW
designator U?
Octal D-Type Transparent Latches With 3-State Outputs, DW0020A, TUBE; Generic Part Number: SN74ALS573C; Manufacturer: Texas Instruments; PartNumber: SN74ALS573CDW; VCC(Min)(V): 4.5; VCC(Max)(V): 5.5; Output Type: TTL; Logic: True; Static Current: 20.5; ICC @ Nom Voltage(Max)(mA): 27; Bits(#): 8; F @ Nom Voltage(Max)(Mhz): 75; Rating: Catalog; Technology Family: ALS; Voltage(Nom)(V): 5; Schmitt Trigger: No; Output Drive (IOL/IOH)(Max)(mA): 24/--2.6; Output Logic: Non-inverted; 3-State Output: Yes; tpd @ Nom Voltage(Max)(ns): 14; DatasheetVersion: SDAS048D; PackageReference: DW0020A; Supplier 1: Digi-Key; Supplier Part Number 1: 296-1129-5-ND; Supplier 2: Farnell; Supplier Part Number 2: 9590820; Supplier 3: Newark; Supplier Part Number 3: 08F6074; Supplier 4: Mouser; Supplier Part Number 4: 595-SN74ALS573CDW; Input Type: TTL; Operating Temperature Range(C): 0 to 70; Code_JEDEC: MS-013; ComponentLink1Description: Manufacturer URL; ComponentLink1URL: http://www.ti.com/; ComponentLink2Description: Datasheet; ComponentLink2URL: http://www.ti.com/lit/ds/symlink/sn74als573c.pdf; ComponentLink3Description: Package Specification; ComponentLink3URL: http://www.ti.com/lit/ml/mpds173a/mpds173a.pdf
footprint DW0020A_N (SOIC, 20-Leads, Body 13x7.6mm, Pitch 1.27mm, IPC Medium Density)
footprint DW0020A_M (SOIC, 20-Leads, Body 13x7.6mm, Pitch 1.27mm, IPC Low Density)
footprint DW0020A_L (SOIC, 20-Leads, Body 13x7.6mm, Pitch 1.27mm, IPC High Density)
pins: 1 ~{OE} (in), 2 1D (in), 3 2D (in), 4 3D (in), 5 4D (in), 6 5D (in), 7 6D (in), 8 7D (in), 9 8D (in), 10 GND (power), 11 LE (in), 12 8Q (hiz), 13 7Q (hiz), 14 6Q (hiz), 15 5Q (hiz), 16 4Q (hiz), 17 3Q (hiz), 18 2Q (hiz), 19 1Q (hiz), 20 VCC (power)

## SN74ALS573CDWR
designator U?
Octal D-Type Transparent Latches With 3-State Outputs, DW0020A, LARGE T&R; Generic Part Number: SN74ALS573C; Manufacturer: Texas Instruments; PartNumber: SN74ALS573CDWR; VCC(Min)(V): 4.5; VCC(Max)(V): 5.5; Output Type: TTL; Logic: True; Static Current: 20.5; ICC @ Nom Voltage(Max)(mA): 27; Bits(#): 8; F @ Nom Voltage(Max)(Mhz): 75; Rating: Catalog; Technology Family: ALS; Voltage(Nom)(V): 5; Schmitt Trigger: No; Output Drive (IOL/IOH)(Max)(mA): 24/--2.6; Output Logic: Non-inverted; 3-State Output: Yes; tpd @ Nom Voltage(Max)(ns): 14; DatasheetVersion: SDAS048D; PackageReference: DW0020A; Supplier 1: Digi-Key; Supplier Part Number 1: 296-1129-2-ND; Supplier 2: Digi-Key; Supplier Part Number 2: 296-1129-1-ND; Supplier 3: Digi-Key; Supplier Part Number 3: 296-1129-6-ND; Supplier 4: Newark; Supplier Part Number 4: 76C2124; Supplier 5: Mouser; Supplier Part Number 5: 595-SN74ALS573CDWR; Input Type: TTL; Operating Temperature Range(C): 0 to 70; Code_JEDEC: MS-013; ComponentLink1Description: Manufacturer URL; ComponentLink1URL: http://www.ti.com/; ComponentLink2Description: Datasheet; ComponentLink2URL: http://www.ti.com/lit/ds/symlink/sn74als573c.pdf; ComponentLink3Description: Package Specification; ComponentLink3URL: http://www.ti.com/lit/ml/mpds173a/mpds173a.pdf
footprint DW0020A_N (SOIC, 20-Leads, Body 13x7.6mm, Pitch 1.27mm, IPC Medium Density)
footprint DW0020A_M (SOIC, 20-Leads, Body 13x7.6mm, Pitch 1.27mm, IPC Low Density)
footprint DW0020A_L (SOIC, 20-Leads, Body 13x7.6mm, Pitch 1.27mm, IPC High Density)
pins: 1 ~{OE} (in), 2 1D (in), 3 2D (in), 4 3D (in), 5 4D (in), 6 5D (in), 7 6D (in), 8 7D (in), 9 8D (in), 10 GND (power), 11 LE (in), 12 8Q (hiz), 13 7Q (hiz), 14 6Q (hiz), 15 5Q (hiz), 16 4Q (hiz), 17 3Q (hiz), 18 2Q (hiz), 19 1Q (hiz), 20 VCC (power)

## SN74ALS573CN
designator U?
Octal D-Type Transparent Latches With 3-State Outputs, N0020A, TUBE; Generic Part Number: SN74ALS573C; Manufacturer: Texas Instruments; PartNumber: SN74ALS573CN; VCC(Min)(V): 4.5; VCC(Max)(V): 5.5; Output Type: TTL; Logic: True; Static Current: 20.5; ICC @ Nom Voltage(Max)(mA): 27; Bits(#): 8; F @ Nom Voltage(Max)(Mhz): 75; Rating: Catalog; Technology Family: ALS; Voltage(Nom)(V): 5; Schmitt Trigger: No; Output Drive (IOL/IOH)(Max)(mA): 24/--2.6; Output Logic: Non-inverted; 3-State Output: Yes; tpd @ Nom Voltage(Max)(ns): 14; DatasheetVersion: SDAS048D; PackageReference: N0020A; Supplier 1: Digi-Key; Supplier Part Number 1: 296-1502-5-ND; Supplier 2: Farnell; Supplier Part Number 2: 1105960; Supplier 3: Newark; Supplier Part Number 3: 60K6796; Supplier 4: Mouser; Supplier Part Number 4: 595-SN74ALS573CN; Input Type: TTL; Operating Temperature Range(C): 0 to 70; Code_JEDEC: MS-001; ComponentLink1Description: Manufacturer URL; ComponentLink1URL: http://www.ti.com/; ComponentLink2Description: Datasheet; ComponentLink2URL: http://www.ti.com/lit/ds/symlink/sn74als573c.pdf; ComponentLink3Description: Package Specification; ComponentLink3URL: http://www.ti.com/lit/ml/mpdi002c/mpdi002c.pdf
footprint N0020A (DIP, 20-Leads, Body 26.9x6.6mm, Pitch 2.54mm)
pins: 1 ~{OE} (in), 2 1D (in), 3 2D (in), 4 3D (in), 5 4D (in), 6 5D (in), 7 6D (in), 8 7D (in), 9 8D (in), 10 GND (power), 11 LE (in), 12 8Q (hiz), 13 7Q (hiz), 14 6Q (hiz), 15 5Q (hiz), 16 4Q (hiz), 17 3Q (hiz), 18 2Q (hiz), 19 1Q (hiz), 20 VCC (power)

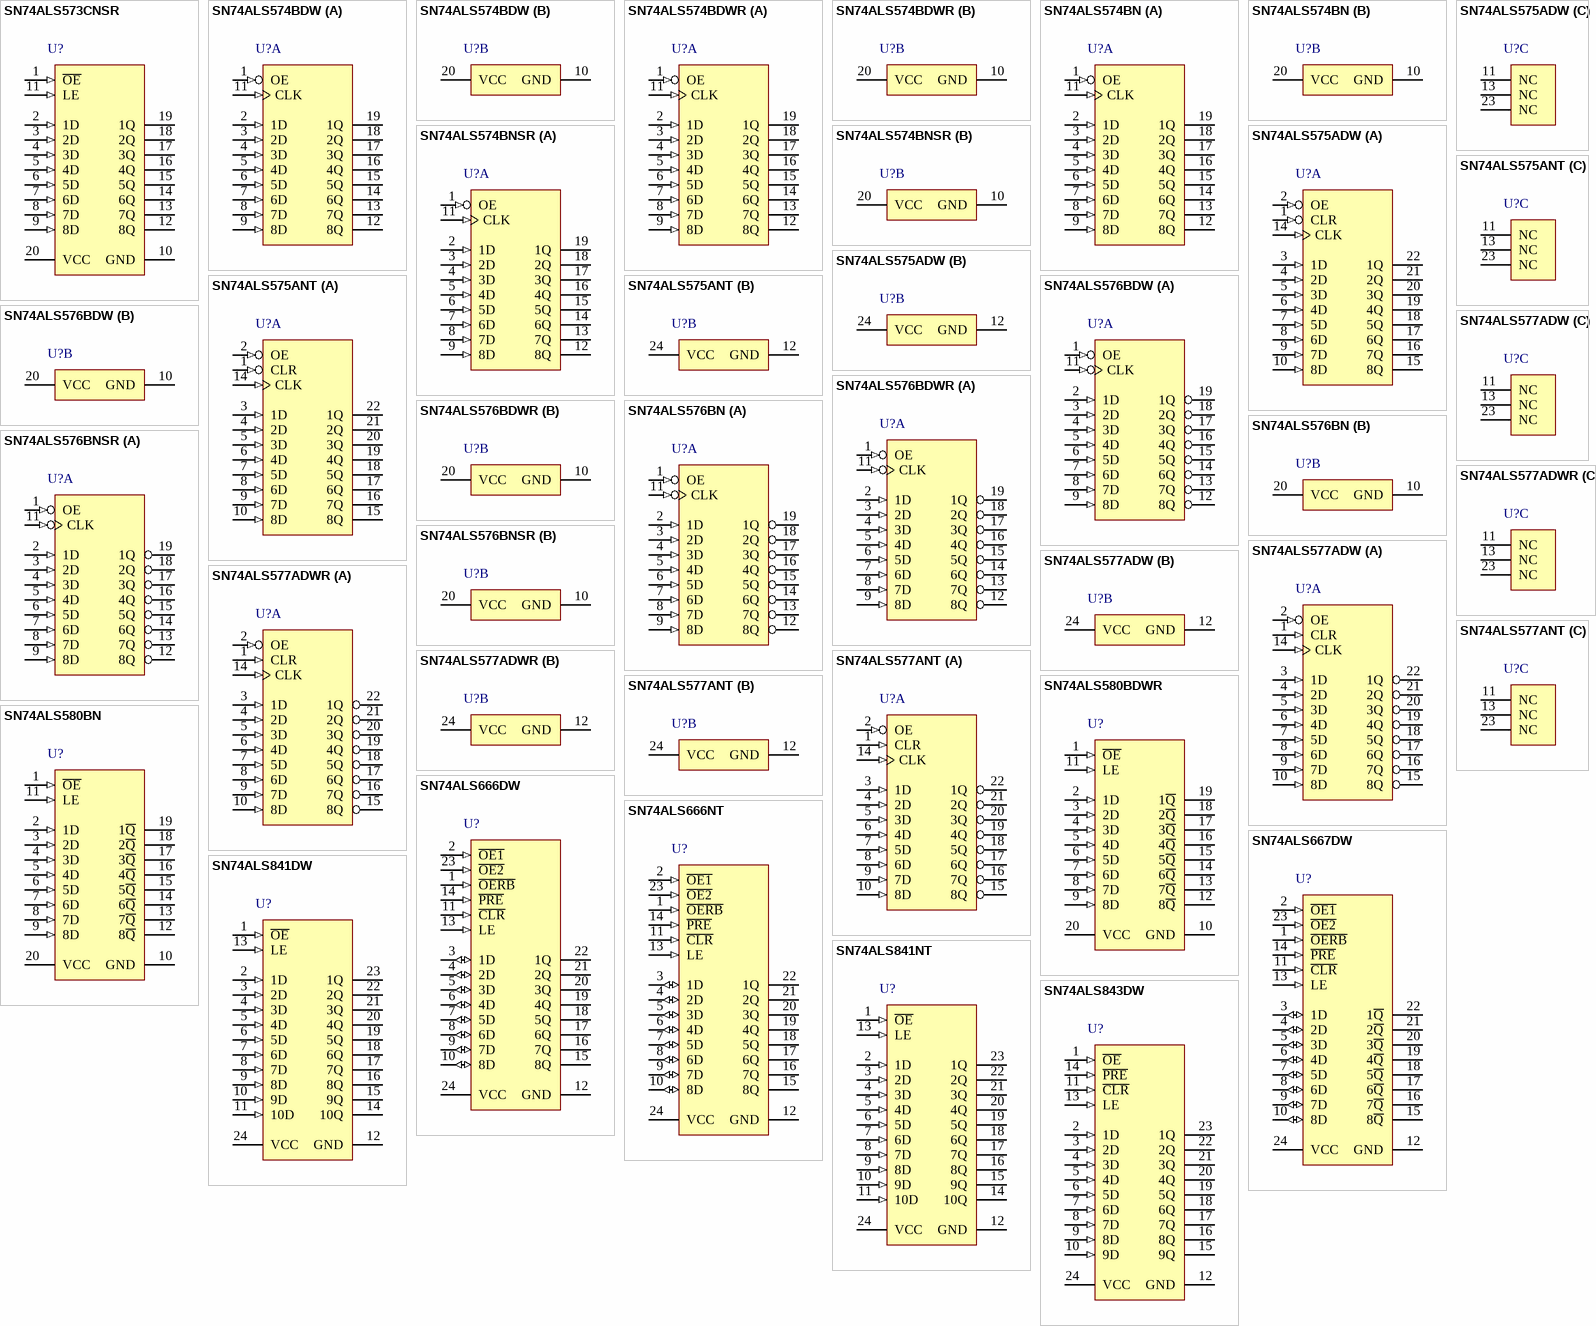
[diagram p74: symbols SN74ALS573CNSR to SN74ALS843DW]

## SN74ALS573CNSR
designator U?
Octal D-Type Transparent Latches With 3-State Outputs, NS0020A, LARGE T&R; Generic Part Number: SN74ALS573C; Manufacturer: Texas Instruments; PartNumber: SN74ALS573CNSR; VCC(Min)(V): 4.5; VCC(Max)(V): 5.5; Output Type: TTL; Logic: True; Static Current: 20.5; ICC @ Nom Voltage(Max)(mA): 27; Bits(#): 8; F @ Nom Voltage(Max)(Mhz): 75; Rating: Catalog; Technology Family: ALS; Voltage(Nom)(V): 5; Schmitt Trigger: No; Output Drive (IOL/IOH)(Max)(mA): 24/--2.6; Output Logic: Non-inverted; 3-State Output: Yes; tpd @ Nom Voltage(Max)(ns): 14; DatasheetVersion: SDAS048D; PackageReference: NS0020A; Supplier 1: Digi-Key; Supplier Part Number 1: 296-29287-2-ND; Supplier 2: Digi-Key; Supplier Part Number 2: 296-29287-1-ND; Supplier 3: Digi-Key; Supplier Part Number 3: 296-29287-6-ND; Supplier 4: Mouser; Supplier Part Number 4: 595-SN74ALS573CNSR; Input Type: TTL; Operating Temperature Range(C): 0 to 70; ComponentLink1Description: Manufacturer URL; ComponentLink1URL: http://www.ti.com/; ComponentLink2Description: Datasheet; ComponentLink2URL: http://www.ti.com/lit/ds/symlink/sn74als573c.pdf; ComponentLink3Description: Package Specification; ComponentLink3URL: http://www.ti.com/lit/ml/msop002a/msop002a.pdf
footprint NS0020A_N (SOIC,20-Leads,Body 12.9x5.6mm,Pitch 1.27mm,IPC Medium Density)
footprint NS0020A_M (SOIC,20-Leads,Body 12.9x5.6mm,Pitch 1.27mm,IPC Low Density)
footprint NS0020A_L (SOIC,20-Leads,Body 12.9x5.6mm,Pitch 1.27mm,IPC High Density)
pins: 1 ~{OE} (in), 2 1D (in), 3 2D (in), 4 3D (in), 5 4D (in), 6 5D (in), 7 6D (in), 8 7D (in), 9 8D (in), 10 GND (power), 11 LE (in), 12 8Q (hiz), 13 7Q (hiz), 14 6Q (hiz), 15 5Q (hiz), 16 4Q (hiz), 17 3Q (hiz), 18 2Q (hiz), 19 1Q (hiz), 20 VCC (power)

## SN74ALS574BDW
designator U?
Octal D-Type Edge-Triggered Flip-Flops with 3-State Outputs, DW0020A, TUBE; Generic Part Number: SN74ALS574B; Manufacturer: Texas Instruments; PartNumber: SN74ALS574BDW; VCC(Min)(V): 4.5; VCC(Max)(V): 5.5; Output Type: TTL; ICC @ Nom Voltage(Max)(mA): 30; Bits(#): 8; F @ Nom Voltage(Max)(Mhz): 75; Rating: Catalog; Technology Family: ALS; Voltage(Nom)(V): 5; Schmitt Trigger: No; Output Drive (IOL/IOH)(Max)(mA): 24/-2.6; Output Logic: Non-inverted; 3-State Output: Yes; tpd @ Nom Voltage(Max)(ns): 14; DatasheetVersion: SDAS165B; PackageReference: DW0020A; Supplier 1: Digi-Key; Supplier Part Number 1: 296-1503-5-ND; Supplier 2: Farnell; Supplier Part Number 2: 1607724; Supplier 3: Newark; Supplier Part Number 3: 67T1472; Supplier 4: Mouser; Supplier Part Number 4: 595-SN74ALS574BDW; Input Type: TTL; Operating Temperature Range(C): 0 to 70; Code_JEDEC: MS-013; ComponentLink1Description: Manufacturer URL; ComponentLink1URL: http://www.ti.com/; ComponentLink2Description: Datasheet; ComponentLink2URL: http://www.ti.com/lit/ds/symlink/sn74als574b.pdf; ComponentLink3Description: Package Specification; ComponentLink3URL: http://www.ti.com/lit/ml/mpds173a/mpds173a.pdf
footprint DW0020A_N (SOIC, 20-Leads, Body 13x7.6mm, Pitch 1.27mm, IPC Medium Density)
footprint DW0020A_M (SOIC, 20-Leads, Body 13x7.6mm, Pitch 1.27mm, IPC Low Density)
footprint DW0020A_L (SOIC, 20-Leads, Body 13x7.6mm, Pitch 1.27mm, IPC High Density)
part A pins: 1 OE (in), 2 1D (in), 3 2D (in), 4 3D (in), 5 4D (in), 6 5D (in), 7 6D (in), 8 7D (in), 9 8D (in), 11 CLK (in), 12 8Q (hiz), 13 7Q (hiz), 14 6Q (hiz), 15 5Q (hiz), 16 4Q (hiz), 17 3Q (hiz), 18 2Q (hiz), 19 1Q (hiz)
part B pins: 10 GND (power), 20 VCC (power)

## SN74ALS574BDWR
designator U?
Octal D-Type Edge-Triggered Flip-Flops with 3-State Outputs, DW0020A, LARGE T&R; Generic Part Number: SN74ALS574B; Manufacturer: Texas Instruments; PartNumber: SN74ALS574BDWR; VCC(Min)(V): 4.5; VCC(Max)(V): 5.5; Output Type: TTL; ICC @ Nom Voltage(Max)(mA): 30; Bits(#): 8; F @ Nom Voltage(Max)(Mhz): 75; Rating: Catalog; Technology Family: ALS; Voltage(Nom)(V): 5; Schmitt Trigger: No; Output Drive (IOL/IOH)(Max)(mA): 24/-2.6; Output Logic: Non-inverted; 3-State Output: Yes; tpd @ Nom Voltage(Max)(ns): 14; DatasheetVersion: SDAS165B; PackageReference: DW0020A; Supplier 1: Digi-Key; Supplier Part Number 1: 296-14745-2-ND; Supplier 2: Digi-Key; Supplier Part Number 2: 296-14745-1-ND; Supplier 3: Digi-Key; Supplier Part Number 3: 296-14745-6-ND; Supplier 4: Newark; Supplier Part Number 4: 76C2126; Supplier 5: Mouser; Supplier Part Number 5: 595-SN74ALS574BDWR; Input Type: TTL; Operating Temperature Range(C): 0 to 70; Code_JEDEC: MS-013; ComponentLink1Description: Manufacturer URL; ComponentLink1URL: http://www.ti.com/; ComponentLink2Description: Datasheet; ComponentLink2URL: http://www.ti.com/lit/ds/symlink/sn74als574b.pdf; ComponentLink3Description: Package Specification; ComponentLink3URL: http://www.ti.com/lit/ml/mpds173a/mpds173a.pdf
footprint DW0020A_N (SOIC, 20-Leads, Body 13x7.6mm, Pitch 1.27mm, IPC Medium Density)
footprint DW0020A_M (SOIC, 20-Leads, Body 13x7.6mm, Pitch 1.27mm, IPC Low Density)
footprint DW0020A_L (SOIC, 20-Leads, Body 13x7.6mm, Pitch 1.27mm, IPC High Density)
part A pins: 1 OE (in), 2 1D (in), 3 2D (in), 4 3D (in), 5 4D (in), 6 5D (in), 7 6D (in), 8 7D (in), 9 8D (in), 11 CLK (in), 12 8Q (hiz), 13 7Q (hiz), 14 6Q (hiz), 15 5Q (hiz), 16 4Q (hiz), 17 3Q (hiz), 18 2Q (hiz), 19 1Q (hiz)
part B pins: 10 GND (power), 20 VCC (power)